# Altium schematic symbol library dongxf_Schlib.SchLib: 300 symbols (part 5 of 6)
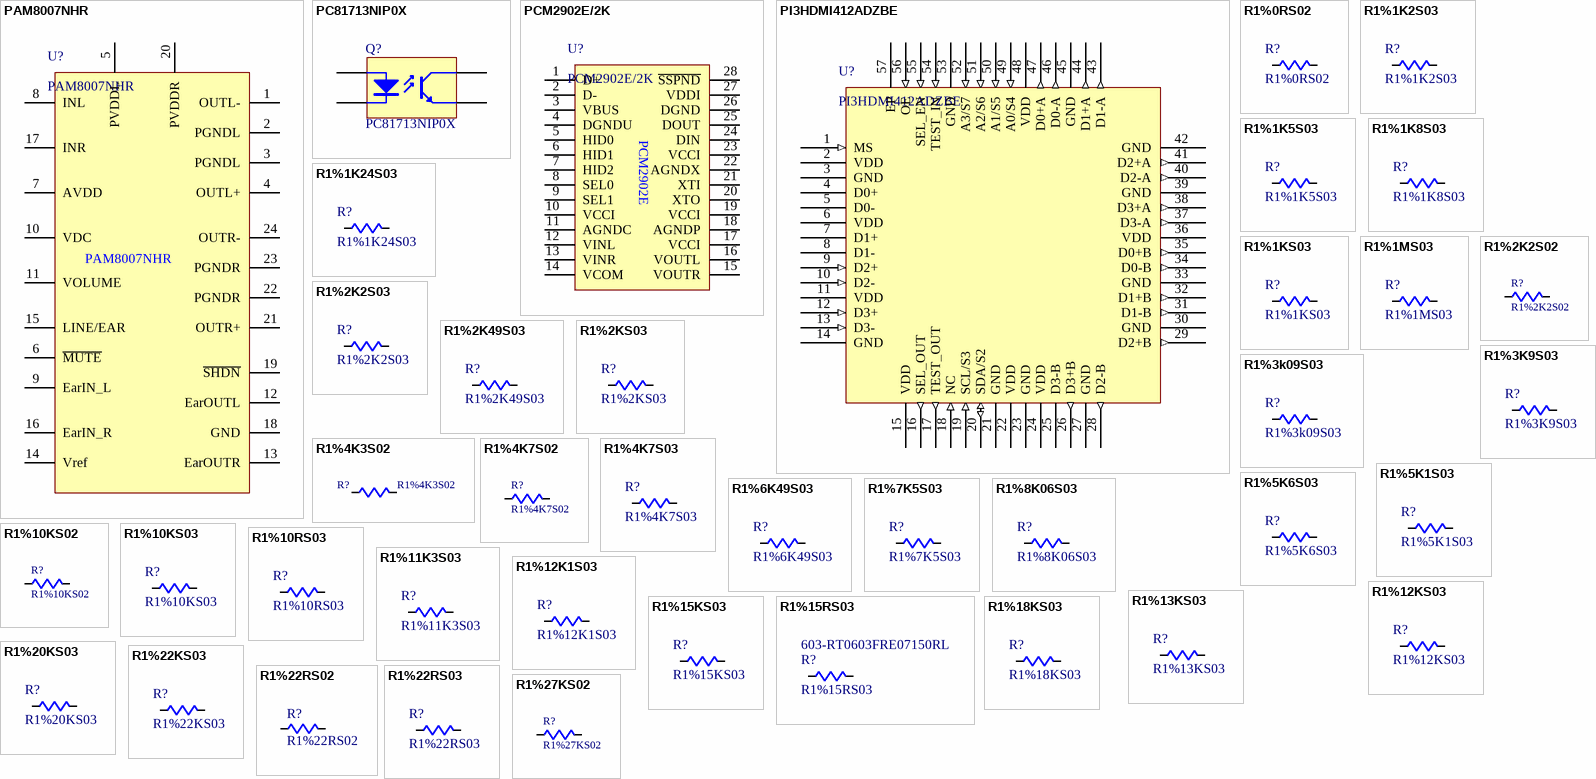
[diagram p18: symbols PAM8007NHR to R1%27KS02]

## R1%22RS03
designator R?
Thin Film Resistors - SMD 1/10W 22 ohm 1% 50ppm; Manufacturer: Yageo; Manufacturer Part Number: RT0603FRE0722RL; Power Rating: 100 mW; Resistance: 22 Ohms; Temperature Coefficient: 50 PPM / C; Voltage Rating: 75 V; Case Height: 0.45 mm; Case Length: 1.6 mm; Case Width: 0.8 mm; Supplier 1: Mouser; RoHS: RoHS Compliant By Exemption; Category: Thin Film Resistors - SMD; Stock 1: 0; Pricing 1: 1=0.135, 50=0.077, 100=0.058, 1000=0.046, 5000=0.038, 10000=0.030, 25000=0.024, 100000=0.019 (AUD); Operating Temperature Range: - 55 C to + 125 C; Package / Case: 0603 (1608 metric); Packaging: Reel; Product: Thin Film Resistors SMD; Series: RT; Tolerance: 1 %; Type: High Precision, High Stability; Brand: Yageo; Case Code - in: 0603; Case Code - mm: 1608; RoHS - Mouser: E; Minimum Order Quantity: 1; Reeling: True; ComponentLink1URL: http://www.yageo.com/documents/recent/PYu-RT_1-to-0.05_RoHS_L_4.pdf; ComponentLink1Description: http://www.yageo.com/documents/recent/PYu-RT_1-to-0.05_RoHS_L_4.pdf; Supplier Part Number 1: 603-RT0603FRE0722RL; My_Descript: R1%22RS03
footprint R0603 (1608 metric)
pins: 1, 2

## R1%27KS02
designator R?
Thick Film Resistors - SMD 27K OHM 5%; Manufacturer: Yageo; Manufacturer Part Number: RC0402JR-0727KL; Voltage Rating: 50 V; Power Rating: 62.5 mW (1/16 W); Resistance: 27 kOhms; Temperature Coefficient: 100 PPM / C; Value: 27K; Supplier 1: Mouser; Supplier Part Number 1: 603-RC0402JR-0727KL; Packaging: Reel; RoHS: RoHS Compliant; Product Category: 0402 SMD Chip Resistors; Termination Style: SMD/SMT; Dimensions: 0.5 mm W x 1 mm L x 0.35 mm H; Product: Thick Film Resistors General Purpose; Case Code - in: 0402; Series: RC; Reeling: True; Case Code - mm: 1005; RoHS - Mouser: Y; Operating Temperature Range: - 55 C to + 155 C; Minimum Order Quantity: 10000; Standard Pack Qty: 10000; Category: Thick Film Resistors - SMD; Tolerance: 5 %; Package / Case: 0402 (1005 metric); My_Descript: R1%27KS02
footprint R0402 (1005 metric)
pins: 1, 2

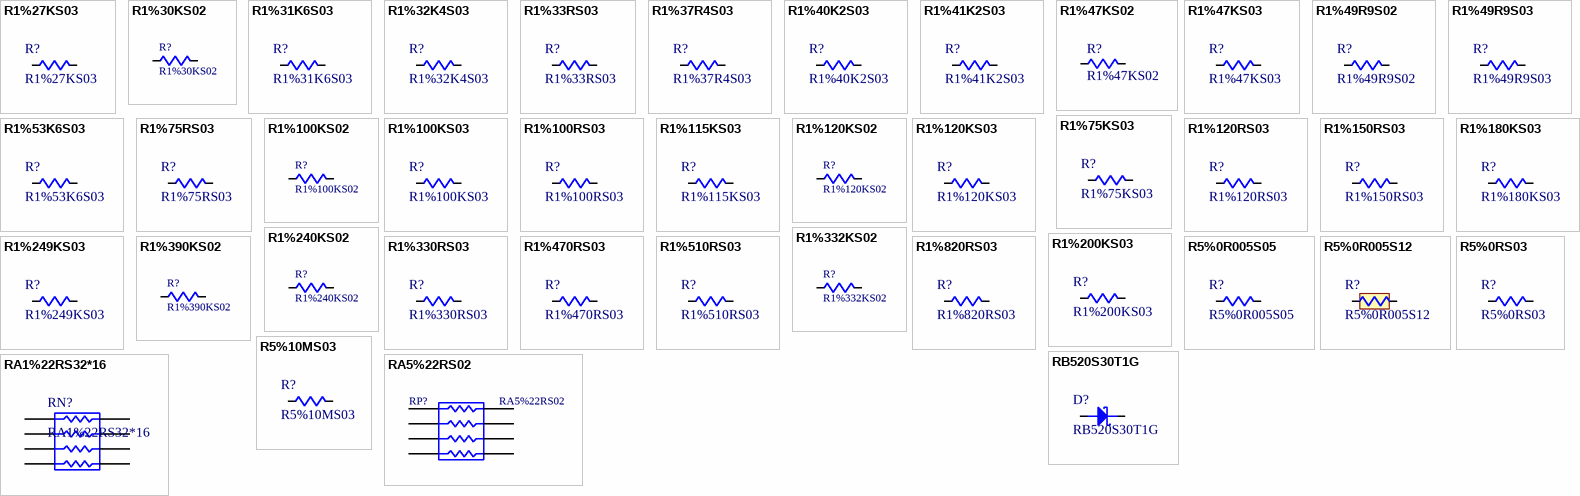
[diagram p9: symbols R1%27KS03 to RB520S30T1G]

## R1%27KS03
designator R?
Thin Film Resistors - SMD 1/10W 27K ohm 1% 50ppm; Manufacturer: Yageo; Manufacturer Part Number: RT0603FRE0727KL; Power Rating: 100 mW; Resistance: 27 kOhms; Temperature Coefficient: 50 PPM / C; Voltage Rating: 75 V; Case Height: 0.45 mm; Case Length: 1.6 mm; Case Width: 0.8 mm; Supplier 1: Mouser; RoHS: RoHS Compliant By Exemption; Category: Thin Film Resistors - SMD; Stock 1: 0; Pricing 1: 1=0.135, 50=0.077, 100=0.058, 1000=0.046, 5000=0.038, 10000=0.030, 25000=0.024, 100000=0.019 (AUD); Operating Temperature Range: - 55 C to + 125 C; Package / Case: 0603 (1608 metric); Packaging: Reel; Product: Thin Film Resistors SMD; Series: RT; Tolerance: 1 %; Type: High Precision, High Stability; Brand: Yageo; Case Code - in: 0603; Case Code - mm: 1608; RoHS - Mouser: E; Minimum Order Quantity: 1; Reeling: True; ComponentLink1URL: http://www.yageo.com/documents/recent/PYu-RT_1-to-0.05_RoHS_L_4.pdf; ComponentLink1Description: http://www.yageo.com/documents/recent/PYu-RT_1-to-0.05_RoHS_L_4.pdf; Supplier Part Number 1: 603-RT0603FRE0727KL; My_Descript: R1%27KS03
footprint R0603 (1608 metric)
pins: 1, 2

## R1%30KS02
designator R?
Thick Film Resistors - SMD 30K OHM 5%; Manufacturer: Yageo; Manufacturer Part Number: RC0402JR-0730KL; Temperature Coefficient: 100 PPM / C; Power Rating: 62.5 mW (1/16 W); Voltage Rating: 50 V; Product Status: New at Mouser; Resistance: 30 kOhms; Tolerance: 5 %; Value: 30K; Supplier 1: Mouser; Supplier Part Number 1: 603-RC0402JR-0730KL; Category: Thick Film Resistors - SMD; Minimum Order Quantity: 10000; Series: RC; Termination Style: SMD/SMT; Product: Thick Film Resistors General Purpose; Case Code - mm: 1005; Dimensions: 0.5 mm W x 1 mm L x 0.35 mm H; Packaging: Reel; Case Code - in: 0402; Operating Temperature Range: - 55 C to + 155 C; RoHS - Mouser: Y; Reeling: True; RoHS: RoHS Compliant; Package / Case: 0402 (1005 metric); My_Descript: R1%30KS02
footprint R0402 (1005 metric)
pins: 1, 2

## R1%31K6S03
designator R?
Manufacturer: Yageo; Manufacturer Part Number: RT0603FRE0731K6L; Power Rating: 100 mW; Resistance: 31.6 kOhms; Temperature Coefficient: 50 PPM / C; Tolerance: 1 %; Voltage Rating: 75 V; Case Height: 0.45 mm; Case Length: 1.6 mm; Case Width: 0.8 mm; Supplier 1: Mouser; RoHS: RoHS Compliant By Exemption; Category: Thin Film Resistors - SMD; Stock 1: 0; Pricing 1: 1=0.135, 50=0.077, 100=0.058, 1000=0.046, 5000=0.038, 10000=0.030, 25000=0.024, 100000=0.019 (AUD); Operating Temperature Range: - 55 C to + 125 C; Package / Case: 0603 (1608 metric); Packaging: Reel; Product: Thin Film Resistors SMD; Series: RT; Type: High Precision, High Stability; Brand: Yageo; Case Code - in: 0603; Case Code - mm: 1608; RoHS - Mouser: E; Minimum Order Quantity: 1; Reeling: True; ComponentLink1URL: http://www.yageo.com/documents/recent/PYu-RT_1-to-0.05_RoHS_L_4.pdf; ComponentLink1Description: http://www.yageo.com/documents/recent/PYu-RT_1-to-0.05_RoHS_L_4.pdf; Supplier Part Number 1: 603-RT0603FRE0731K6L; My_Descript: R1%31K6S03
footprint R0603 (1608 metric)
pins: 1, 2

## R1%32K4S03
designator R?
Manufacturer: Yageo; Manufacturer Part Number: RT0603FRE0732K4L; Power Rating: 100 mW; Resistance: 32.4 kOhms; Temperature Coefficient: 50 PPM / C; Tolerance: 1 %; Voltage Rating: 75 V; Case Height: 0.45 mm; Case Length: 1.6 mm; Case Width: 0.8 mm; My_Descript: R1%32K4S03; Supplier 1: Mouser; RoHS: RoHS Compliant By Exemption; Category: Thin Film Resistors - SMD; Stock 1: 0; Pricing 1: 1=0.135, 50=0.077, 100=0.058, 1000=0.046, 5000=0.038, 10000=0.030, 25000=0.024, 100000=0.019 (AUD); Operating Temperature Range: - 55 C to + 125 C; Package / Case: 0603 (1608 metric); Packaging: Reel; Product: Thin Film Resistors SMD; Series: RT; Type: High Precision, High Stability; Brand: Yageo; Case Code - in: 0603; Case Code - mm: 1608; RoHS - Mouser: E; Minimum Order Quantity: 1; Reeling: True; ComponentLink1URL: http://www.yageo.com/documents/recent/PYu-RT_1-to-0.05_RoHS_L_4.pdf; ComponentLink1Description: http://www.yageo.com/documents/recent/PYu-RT_1-to-0.05_RoHS_L_4.pdf; Supplier Part Number 1: 603-RT0603FRE0732K4L
footprint R0603 (1608 metric)
pins: 1, 2

## R1%33RS03
designator R?
Thin Film Resistors - SMD 1/10W 33 ohm 1% 50ppm; Manufacturer: Yageo; Manufacturer Part Number: RT0603FRE0733RL; Power Rating: 100 mW; Resistance: 33 Ohms; Temperature Coefficient: 50 PPM / C; Voltage Rating: 75 V; Case Height: 0.45 mm; Case Length: 1.6 mm; Case Width: 0.8 mm; Supplier 1: Mouser; RoHS: RoHS Compliant By Exemption; Category: Thin Film Resistors - SMD; Stock 1: 24234; Pricing 1: 1=0.135, 50=0.077, 100=0.058, 1000=0.046, 5000=0.038, 10000=0.030, 25000=0.024, 100000=0.019 (AUD); Operating Temperature Range: - 55 C to + 125 C; Package / Case: 0603 (1608 metric); Packaging: Reel; Product: Thin Film Resistors SMD; Series: RT; Tolerance: 1 %; Type: High Precision, High Stability; Brand: Yageo; Case Code - in: 0603; Case Code - mm: 1608; RoHS - Mouser: E; Minimum Order Quantity: 1; Reeling: True; ComponentLink1URL: http://www.yageo.com/documents/recent/PYu-RT_1-to-0.05_RoHS_L_4.pdf; ComponentLink1Description: http://www.yageo.com/documents/recent/PYu-RT_1-to-0.05_RoHS_L_4.pdf; Supplier Part Number 1: 603-RT0603FRE0733RL; My_Descript: R1%33RS03; Supplier 2: Mouser; Stock 2: 4618; Pricing 2: 1=0.851, 10=0.346, 100=0.193, 1000=0.144, 5000=0.084, 10000=0.077, 25000=0.076, 50000=0.074 (AUD); Standard Pack Qty: 5000; ComponentLink2URL: http://www.mouser.com/ds/2/315/AOA0000CE3-72189.pdf; ComponentLink2Description: http://www.mouser.com/ds/2/315/AOA0000CE3-72189.pdf; Supplier Part Number 2: 667-ERJ-L06KJ50MV
footprint R0603 (1608 metric)
pins: 1, 2

## R1%37R4S03
designator R?
Thin Film Resistors - SMD 1/10W 37.4 ohm 1% 50ppm; Manufacturer: Yageo; Manufacturer Part Number: RT0603FRE0737R4L; Power Rating: 100 mW; Resistance: 37.4 Ohms; Temperature Coefficient: 50 PPM / C; Voltage Rating: 75 V; Case Height: 0.45 mm; Case Length: 1.6 mm; Case Width: 0.8 mm; Supplier 1: Mouser; RoHS: RoHS Compliant By Exemption; Category: Thin Film Resistors - SMD; Stock 1: 0; Pricing 1: 1=0.135, 50=0.077, 100=0.058, 1000=0.046, 5000=0.038, 10000=0.030, 25000=0.024, 100000=0.019 (AUD); Operating Temperature Range: - 55 C to + 125 C; Package / Case: 0603 (1608 metric); Packaging: Reel; Product: Thin Film Resistors SMD; Series: RT; Tolerance: 1 %; Type: High Precision, High Stability; Brand: Yageo; Case Code - in: 0603; Case Code - mm: 1608; RoHS - Mouser: E; Minimum Order Quantity: 1; Reeling: True; ComponentLink1URL: http://www.yageo.com/documents/recent/PYu-RT_1-to-0.05_RoHS_L_4.pdf; ComponentLink1Description: http://www.yageo.com/documents/recent/PYu-RT_1-to-0.05_RoHS_L_4.pdf; Supplier Part Number 1: 603-RT0603FRE0737R4L; My_Descript: R1%37R4S03
footprint R0603 (1608 metric)
pins: 1, 2

## R1%40K2S03
designator R?
Manufacturer: Yageo; Manufacturer Part Number: RT0603FRE0740K2L; Power Rating: 100 mW; Resistance: 40.2 kOhms; Temperature Coefficient: 50 PPM / C; Tolerance: 1 %; Voltage Rating: 75 V; Case Height: 0.45 mm; Case Length: 1.6 mm; Case Width: 0.8 mm; Supplier 1: Mouser; RoHS: RoHS Compliant By Exemption; Category: Thin Film Resistors - SMD; Stock 1: 0; Pricing 1: 1=0.135, 50=0.077, 100=0.058, 1000=0.046, 5000=0.038, 10000=0.030, 25000=0.024, 100000=0.019 (AUD); Operating Temperature Range: - 55 C to + 125 C; Package / Case: 0603 (1608 metric); Packaging: Reel; Product: Thin Film Resistors SMD; Series: RT; Type: High Precision, High Stability; Brand: Yageo; Case Code - in: 0603; Case Code - mm: 1608; RoHS - Mouser: E; Minimum Order Quantity: 1; Reeling: True; ComponentLink1URL: http://www.yageo.com/documents/recent/PYu-RT_1-to-0.05_RoHS_L_4.pdf; ComponentLink1Description: http://www.yageo.com/documents/recent/PYu-RT_1-to-0.05_RoHS_L_4.pdf; Supplier Part Number 1: 603-RT0603FRE0740K2L; My_Descript: R1%40K2S03
footprint R0603 (1608 metric)
pins: 1, 2

## R1%41K2S03
designator R?
Manufacturer: Yageo; Manufacturer Part Number: RT0603FRE0741K2L; Power Rating: 100 mW; Resistance: 41.2 kOhms; Temperature Coefficient: 50 PPM / C; Tolerance: 1 %; Voltage Rating: 75 V; Case Height: 0.45 mm; Case Length: 1.6 mm; Case Width: 0.8 mm; My_Descript: R1%41K2S03; Supplier 1: Mouser; RoHS: RoHS Compliant By Exemption; Category: Thin Film Resistors - SMD; Stock 1: 0; Pricing 1: 1=0.135, 50=0.077, 100=0.058, 1000=0.046, 5000=0.038, 10000=0.030, 25000=0.024, 100000=0.019 (AUD); Operating Temperature Range: - 55 C to + 125 C; Package / Case: 0603 (1608 metric); Packaging: Reel; Product: Thin Film Resistors SMD; Series: RT; Type: High Precision, High Stability; Brand: Yageo; Case Code - in: 0603; Case Code - mm: 1608; RoHS - Mouser: E; Minimum Order Quantity: 1; Reeling: True; ComponentLink1URL: http://www.yageo.com/documents/recent/PYu-RT_1-to-0.05_RoHS_L_4.pdf; ComponentLink1Description: http://www.yageo.com/documents/recent/PYu-RT_1-to-0.05_RoHS_L_4.pdf; Supplier Part Number 1: 603-RT0603FRE0741K2L
footprint R0603 (1608 metric)
pins: 1, 2

## R1%47KS02
designator R?
Thick Film Resistors - SMD 47K OHM 5%; Manufacturer: Yageo; Manufacturer Part Number: RC0402JR-0747KL; Voltage Rating: 50 V; Temperature Coefficient: 100 PPM / C; Power Rating: 62.5 mW (1/16 W); Resistance: 47 kOhms; Value: 47K; Supplier 1: Mouser; Category: Thick Film Resistors - SMD; Standard Pack Qty: 10000; Case Code - mm: 1005; Termination Style: SMD/SMT; Product Category: 0402 SMD Chip Resistors; Operating Temperature Range: - 55 C to + 155 C; RoHS: RoHS Compliant; Tolerance: 5 %; Dimensions: 0.5 mm W x 1 mm L x 0.35 mm H; Product: Thick Film Resistors General Purpose; Package / Case: 0402 (1005 metric); Series: RC; Case Code - in: 0402; Packaging: Reel; Minimum Order Quantity: 10000; RoHS - Mouser: Y; Reeling: True; Supplier Part Number 1: 603-RC0402JR-0747KL; My_Descript: R1%47KS02
footprint R0402 (1005 metric)
pins: 1, 2

## R1%47KS03
designator R?
Thin Film Resistors - SMD 1/10W 47K ohm 1% 50ppm; Manufacturer: Yageo; Manufacturer Part Number: RT0603FRE0747KL; Power Rating: 100 mW; Resistance: 47 kOhms; Temperature Coefficient: 50 PPM / C; Voltage Rating: 75 V; Case Height: 0.45 mm; Case Length: 1.6 mm; Case Width: 0.8 mm; Product Status: New at Mouser; Supplier 1: Mouser; RoHS: RoHS Compliant By Exemption; Category: Thin Film Resistors - SMD; Stock 1: 19536; Pricing 1: 1=0.135, 50=0.077, 100=0.058, 1000=0.046, 5000=0.038, 10000=0.027, 25000=0.022, 50000=0.019, 100000=0.016 (AUD); Operating Temperature Range: - 55 C to + 125 C; Package / Case: 0603 (1608 metric); Packaging: Reel; Product: Thin Film Resistors SMD; Series: RT; Tolerance: 1 %; Type: High Precision, High Stability; Brand: Yageo; Case Code - in: 0603; Case Code - mm: 1608; RoHS - Mouser: E; Minimum Order Quantity: 1; Reeling: True; ComponentLink1URL: http://www.yageo.com/documents/recent/PYu-RT_1-to-0.05_RoHS_L_4.pdf; ComponentLink1Description: http://www.yageo.com/documents/recent/PYu-RT_1-to-0.05_RoHS_L_4.pdf; Supplier Part Number 1: 603-RT0603FRE0747KL; My_Descript: R1%47KS03
footprint R0603 (1608 metric)
pins: 1, 2

## R1%49R9S02
designator R?
Manufacturer: Yageo; Manufacturer Part Number: RT0402FRE0749R9L; Power Rating: 62.5 mW (1/16 W); Resistance: 49.9 Ohms; Temperature Coefficient: 50 PPM / C; Tolerance: 1 %; Voltage Rating: 50 V; Case Height: 0.3 mm; Case Length: 1 mm; Case Width: 0.5 mm; Supplier 1: Mouser; RoHS: RoHS Compliant By Exemption; Category: Thin Film Resistors - SMD; Stock 1: 32852; Pricing 1: 1=0.135, 50=0.107, 100=0.095, 1000=0.084, 5000=0.070, 10000=0.058, 20000=0.039, 50000=0.024, 100000=0.019 (AUD); Operating Temperature Range: - 55 C to + 125 C; Package / Case: 0402 (1005 metric); Packaging: Reel; Product: Thin Film Resistors SMD; Series: RT; Type: High Precision, High Stability; Brand: Yageo; Case Code - in: 0402; Case Code - mm: 1005; RoHS - Mouser: E; Minimum Order Quantity: 1; Reeling: True; ComponentLink1URL: http://www.yageo.com/documents/recent/PYu-RT_1-to-0.05_RoHS_L_4.pdf; ComponentLink1Description: http://www.yageo.com/documents/recent/PYu-RT_1-to-0.05_RoHS_L_4.pdf; Supplier Part Number 1: 603-RT0402FRE0749R9L; My_Descript: R1%49R9S02
footprint R0402 (1005 metric)
pins: 1, 2

## R1%49R9S03
designator R?
Manufacturer: Yageo; Manufacturer Part Number: RT0603FRE0749R9L; Power Rating: 100 mW; Resistance: 49.9 Ohms; Temperature Coefficient: 50 PPM / C; Tolerance: 1 %; Voltage Rating: 75 V; Case Height: 0.45 mm; Case Length: 1.6 mm; Case Width: 0.8 mm; Supplier 1: Mouser; RoHS: RoHS Compliant By Exemption; Category: Thin Film Resistors - SMD; Stock 1: 16276; Pricing 1: 1=0.135, 50=0.077, 100=0.058, 1000=0.046, 5000=0.038, 10000=0.030, 25000=0.024, 100000=0.019 (AUD); Operating Temperature Range: - 55 C to + 125 C; Package / Case: 0603 (1608 metric); Packaging: Reel; Product: Thin Film Resistors SMD; Series: RT; Type: High Precision, High Stability; Brand: Yageo; Case Code - in: 0603; Case Code - mm: 1608; RoHS - Mouser: E; Minimum Order Quantity: 1; Reeling: True; ComponentLink1URL: http://www.yageo.com/documents/recent/PYu-RT_1-to-0.05_RoHS_L_4.pdf; ComponentLink1Description: http://www.yageo.com/documents/recent/PYu-RT_1-to-0.05_RoHS_L_4.pdf; Supplier Part Number 1: 603-RT0603FRE0749R9L; My_Descript: R1%49R9S03
footprint R0603 (1608 metric)
pins: 1, 2

## R1%53K6S03
designator R?
Thin Film Resistors - SMD 1/10W 8.06K ohm 1% 50ppm; Manufacturer: Yageo; Manufacturer Part Number: RC0603FR-0753K6L; Power Rating: 100 mW; Resistance: 53.6 kOhms; Temperature Coefficient: 100 PPM / C; Voltage Rating: 50 V; Case Height: 0.45 mm; Case Length: 1.6 mm; Case Width: 0.8 mm; My_Descript: R1%53K6S03; Supplier 1: Mouser; RoHS: RoHS Compliant; Category: Thick Film Resistors - SMD; Stock 1: 75000; Pricing 1: 5000=0.003 (AUD); Operating Temperature Range: - 55 C to + 155 C; Package / Case: 0603 (1608 metric); Packaging: Reel; Product: Thick Film Resistors General Purpose; Series: RC; Tolerance: 1 %; Type: General Purpose Chip Resistor Surface Mount; Brand: Yageo; Case Code - in: 0603; Case Code - mm: 1608; Product Category: 0603 SMD Chip Resistors; Standard Pack Qty: 5000; RoHS - Mouser: Y; Minimum Order Quantity: 5000; Reeling: True; ComponentLink1URL: http://www.mouser.com/catalog/specsheets/RC0603.pdf; ComponentLink1Description: http://www.mouser.com/catalog/specsheets/RC0603.pdf; Supplier Part Number 1: 603-RC0603FR-0753K6L
footprint R0603 (1608 metric)
pins: 1, 2

## R1%75KS03
designator R?
Thin Film Resistors - SMD 1/10W 75K ohm 1% 50ppm; Manufacturer: Yageo; Manufacturer Part Number: RT0603FRE0775KL; Power Rating: 100 mW; Resistance: 75 kOhms; Temperature Coefficient: 50 PPM / C; Voltage Rating: 75 V; Case Height: 0.45 mm; Case Length: 1.6 mm; Case Width: 0.8 mm; Product Status: New at Mouser; Supplier 1: Mouser; RoHS: RoHS Compliant By Exemption; Category: Thin Film Resistors - SMD; Stock 1: 15664; Pricing 1: 1=0.135, 50=0.077, 100=0.058, 1000=0.046, 5000=0.038, 10000=0.027, 25000=0.022, 50000=0.019, 100000=0.016 (AUD); Operating Temperature Range: - 55 C to + 125 C; Package / Case: 0603 (1608 metric); Packaging: Reel; Product: Thin Film Resistors SMD; Series: RT; Tolerance: 1 %; Type: High Precision, High Stability; Brand: Yageo; Case Code - in: 0603; Case Code - mm: 1608; RoHS - Mouser: E; Minimum Order Quantity: 1; Reeling: True; ComponentLink1URL: http://www.yageo.com/documents/recent/PYu-RT_1-to-0.05_RoHS_L_4.pdf; ComponentLink1Description: http://www.yageo.com/documents/recent/PYu-RT_1-to-0.05_RoHS_L_4.pdf; Supplier Part Number 1: 603-RT0603FRE0775KL; My_Descript: R1%75KS03
footprint R0603 (1608 metric)
pins: 1, 2

## R1%75RS03
designator R?
Thin Film Resistors - SMD 1/10W 75 ohm 1% 50ppm; Manufacturer: Yageo; Manufacturer Part Number: RT0603FRE0775RL; Power Rating: 100 mW; Resistance: 75 Ohms; Temperature Coefficient: 50 PPM / C; Voltage Rating: 75 V; Case Height: 0.45 mm; Case Length: 1.6 mm; Case Width: 0.8 mm; Supplier 1: Mouser; RoHS: RoHS Compliant By Exemption; Category: Thin Film Resistors - SMD; Stock 1: 11247; Pricing 1: 1=0.135, 50=0.077, 100=0.058, 1000=0.046, 5000=0.038, 10000=0.030, 25000=0.024, 100000=0.019 (AUD); Operating Temperature Range: - 55 C to + 125 C; Package / Case: 0603 (1608 metric); Packaging: Reel; Product: Thin Film Resistors SMD; Series: RT; Tolerance: 1 %; Type: High Precision, High Stability; Brand: Yageo; Case Code - in: 0603; Case Code - mm: 1608; RoHS - Mouser: E; Minimum Order Quantity: 1; Reeling: True; ComponentLink1URL: http://www.yageo.com/documents/recent/PYu-RT_1-to-0.05_RoHS_L_4.pdf; ComponentLink1Description: http://www.yageo.com/documents/recent/PYu-RT_1-to-0.05_RoHS_L_4.pdf; Supplier Part Number 1: 603-RT0603FRE0775RL; My_Descript: R1%75RS03
footprint R0603 (1608 metric)
pins: 1, 2

## R1%100KS02
designator R?
Thick Film Resistors - SMD 100K OHM 5%; Manufacturer: Yageo; Manufacturer Part Number: RC0402JR-07100KL; Power Rating: 62.5 mW (1/16 W); Temperature Coefficient: 100 PPM / C; Resistance: 100 kOhms; Voltage Rating: 50 V; Value: 100K; Supplier 1: Mouser; Supplier Part Number 1: 603-RC0402JR-07100KL; RoHS: RoHS Compliant; Minimum Order Quantity: 10000; Case Code - mm: 1005; Case Code - in: 0402; RoHS - Mouser: Y; Product: Thick Film Resistors General Purpose; Dimensions: 0.5 mm W x 1 mm L x 0.35 mm H; Packaging: Reel; Product Category: 0402 SMD Chip Resistors; Standard Pack Qty: 10000; Category: Thick Film Resistors - SMD; Reeling: True; Operating Temperature Range: - 55 C to + 155 C; Package / Case: 0402 (1005 metric); Tolerance: 5 %; Termination Style: SMD/SMT; Series: RC; My_Descript: R1%100KS02
footprint R0402 (1005 metric)
pins: 1, 2

## R1%100KS03
designator R?
Thin Film Resistors - SMD 1/10W 100K ohm 1% 50ppm; Manufacturer: Yageo; Manufacturer Part Number: RT0603FRE13100KL; Power Rating: 100 mW; Resistance: 100 kOhms; Temperature Coefficient: 50 PPM / C; Voltage Rating: 75 V; Case Height: 0.45 mm; Case Length: 1.6 mm; Case Width: 0.8 mm; Product Status: New at Mouser; Supplier 1: Mouser; RoHS: RoHS Compliant By Exemption; Category: Thin Film Resistors - SMD; Stock 1: 17751; Pricing 1: 1=0.135, 50=0.077, 100=0.058, 1000=0.046, 5000=0.038, 10000=0.030, 20000=0.024, 100000=0.019 (AUD); Operating Temperature Range: - 55 C to + 125 C; Package / Case: 0603 (1608 metric); Packaging: Reel; Product: Thin Film Resistors SMD; Series: RT; Tolerance: 1 %; Type: High Precision, High Stability; Brand: Yageo; Case Code - in: 0603; Case Code - mm: 1608; RoHS - Mouser: E; Minimum Order Quantity: 1; Reeling: True; ComponentLink1URL: http://www.yageo.com/documents/recent/PYu-RT_1-to-0.05_RoHS_L_4.pdf; ComponentLink1Description: http://www.yageo.com/documents/recent/PYu-RT_1-to-0.05_RoHS_L_4.pdf; My_Descript: R1%100KS03; Supplier Part Number 1: 603-RT0603FRE13100KL
footprint R0603 (1608 metric)
pins: 1, 2

## R1%100RS03
designator R?
Thin Film Resistors - SMD 1/10W 100 ohm 1% 50ppm; Manufacturer: Yageo; Manufacturer Part Number: RT0603FRE07100RL; Power Rating: 100 mW; Resistance: 100 Ohms; Temperature Coefficient: 50 PPM / C; Voltage Rating: 75 V; Case Height: 0.45 mm; Case Length: 1.6 mm; Case Width: 0.8 mm; Product Status: New at Mouser; Supplier 1: Mouser; RoHS: RoHS Compliant By Exemption; Category: Thin Film Resistors - SMD; Stock 1: 28415; Pricing 1: 1=0.135, 50=0.077, 100=0.058, 1000=0.046, 5000=0.038, 10000=0.030, 25000=0.024, 100000=0.019 (AUD); Operating Temperature Range: - 55 C to + 125 C; Package / Case: 0603 (1608 metric); Packaging: Reel; Product: Thin Film Resistors SMD; Series: RT; Tolerance: 1 %; Type: High Precision, High Stability; Brand: Yageo; Case Code - in: 0603; Case Code - mm: 1608; RoHS - Mouser: E; Minimum Order Quantity: 1; Reeling: True; ComponentLink1URL: http://www.yageo.com/documents/recent/PYu-RT_1-to-0.05_RoHS_L_4.pdf; ComponentLink1Description: http://www.yageo.com/documents/recent/PYu-RT_1-to-0.05_RoHS_L_4.pdf; Supplier Part Number 1: 603-RT0603FRE07100RL; My_Descript: R1%100RS03
footprint R0603 (1608 metric)
pins: 1, 2

## R1%115KS03
designator R?
Thin Film Resistors - SMD 1/10W 115K ohm 1% 50ppm; Manufacturer: Yageo; Manufacturer Part Number: RT0603FRE07115KL; Power Rating: 100 mW; Resistance: 115 kOhms; Temperature Coefficient: 50 PPM / C; Voltage Rating: 75 V; Case Height: 0.45 mm; Case Length: 1.6 mm; Case Width: 0.8 mm; Supplier 1: Mouser; RoHS: RoHS Compliant By Exemption; Category: Thin Film Resistors - SMD; Stock 1: 0; Pricing 1: 1=0.135, 50=0.077, 100=0.058, 1000=0.046, 5000=0.038, 10000=0.030, 25000=0.024, 100000=0.019 (AUD); Operating Temperature Range: - 55 C to + 125 C; Package / Case: 0603 (1608 metric); Packaging: Reel; Product: Thin Film Resistors SMD; Series: RT; Tolerance: 1 %; Type: High Precision, High Stability; Brand: Yageo; Case Code - in: 0603; Case Code - mm: 1608; RoHS - Mouser: E; Minimum Order Quantity: 1; Reeling: True; ComponentLink1URL: http://www.yageo.com/documents/recent/PYu-RT_1-to-0.05_RoHS_L_4.pdf; ComponentLink1Description: http://www.yageo.com/documents/recent/PYu-RT_1-to-0.05_RoHS_L_4.pdf; Supplier Part Number 1: 603-RT0603FRE07115KL; My_Descript: R1%115KS03
footprint R0603 (1608 metric)
pins: 1, 2

## R1%120KS02
designator R?
Thick Film Resistors - SMD 120K OHM 1%; Manufacturer: Yageo; Manufacturer Part Number: RC0402FR-07120KL; Power Rating: 62.5 mW (1/16 W); Resistance: 120 kOhms; Temperature Coefficient: 100 PPM / C; Voltage Rating: 50 V; Product Status: New at Mouser; Tolerance: 1 %; Supplier 1: Mouser; Supplier Part Number 1: 603-RC0402FR-07120KL; RoHS: RoHS Compliant; Category: Thick Film Resistors - SMD; Operating Temperature Range: - 55 C to + 155 C; Package / Case: 0402 (1005 metric); Packaging: Reel; Product: Thick Film Resistors General Purpose; Case Code - in: 0402; Case Code - mm: 1005; RoHS - Mouser: Y; Minimum Order Quantity: 10000; Reeling: True; Value: 120K; Stock: 10000; Dimensions: 0.5 mm W x 1 mm L x 0.35 mm H; Series: RC; Termination Style: SMD/SMT; ComponentLink1URL: http://www.mouser.com/ds/2/447/PYu-RC0402_51_RoHS_L_6_r-8721.pdf; ComponentLink1Description: http://www.mouser.com/ds/2/447/PYu-RC0402_51_RoHS_L_6_r-8721.pdf; My_Descript: R1%120KS02
footprint R0402 (1005 metric)
pins: 1, 2

## R1%120KS03
designator R?
Manufacturer: Yageo; Manufacturer Part Number: RT0603FRE07120KL; Power Rating: 100 mW; Resistance: 120 kOhms; Temperature Coefficient: 50 PPM / C; Tolerance: 1 %; Voltage Rating: 75 V; Case Height: 0.45 mm; Case Length: 1.6 mm; Case Width: 0.8 mm; Supplier 1: Mouser; RoHS: RoHS Compliant By Exemption; Category: Thin Film Resistors - SMD; Stock 1: 107137; Pricing 1: 1=0.135, 50=0.077, 100=0.058, 1000=0.046, 5000=0.038, 10000=0.030, 25000=0.024, 100000=0.019 (AUD); Operating Temperature Range: - 55 C to + 125 C; Package / Case: 0603 (1608 metric); Packaging: Reel; Product: Thin Film Resistors SMD; Series: RT; Type: High Precision, High Stability; Brand: Yageo; Case Code - in: 0603; Case Code - mm: 1608; RoHS - Mouser: E; Minimum Order Quantity: 1; Reeling: True; ComponentLink1URL: http://www.yageo.com/documents/recent/PYu-RT_1-to-0.05_RoHS_L_4.pdf; ComponentLink1Description: http://www.yageo.com/documents/recent/PYu-RT_1-to-0.05_RoHS_L_4.pdf; Supplier Part Number 1: 603-RT0603FRE07120KL; My_Descript: R1%120KS03
footprint R0603 (1608 metric)
pins: 1, 2

## R1%120RS03
designator R?
Thin Film Resistors - SMD 1/10W 120 ohm 1% 50ppm; Manufacturer: Yageo; Manufacturer Part Number: RT0603FRE07120RL; Power Rating: 100 mW; Resistance: 120 Ohms; Temperature Coefficient: 50 PPM / C; Voltage Rating: 75 V; Case Height: 0.45 mm; Case Length: 1.6 mm; Case Width: 0.8 mm; Supplier 1: Mouser; RoHS: RoHS Compliant By Exemption; Category: Thin Film Resistors - SMD; Stock 1: 0; Pricing 1: 1=0.135, 50=0.077, 100=0.058, 1000=0.046, 5000=0.038, 10000=0.030, 25000=0.024, 100000=0.019 (AUD); Operating Temperature Range: - 55 C to + 125 C; Package / Case: 0603 (1608 metric); Packaging: Reel; Product: Thin Film Resistors SMD; Series: RT; Tolerance: 1 %; Type: High Precision, High Stability; Brand: Yageo; Case Code - in: 0603; Case Code - mm: 1608; RoHS - Mouser: E; Minimum Order Quantity: 1; Reeling: True; ComponentLink1URL: http://www.yageo.com/documents/recent/PYu-RT_1-to-0.05_RoHS_L_4.pdf; ComponentLink1Description: http://www.yageo.com/documents/recent/PYu-RT_1-to-0.05_RoHS_L_4.pdf; Supplier Part Number 1: 603-RT0603FRE07120RL; My_Descript: R1%120RS03
footprint R0603 (1608 metric)
pins: 1, 2

## R1%150RS03
designator R?
Thin Film Resistors - SMD 1/10W 150 ohm 1% 50ppm; Manufacturer: Yageo; Manufacturer Part Number: RT0603FRE07150RL; Power Rating: 100 mW; Resistance: 150 Ohms; Temperature Coefficient: 50 PPM / C; Voltage Rating: 75 V; Case Height: 0.45 mm; Case Length: 1.6 mm; Case Width: 0.8 mm; Supplier 1: Mouser; RoHS: RoHS Compliant By Exemption; Category: Thin Film Resistors - SMD; Stock 1: 4541; Pricing 1: 1=0.135, 50=0.077, 100=0.058, 1000=0.046, 5000=0.038, 10000=0.030, 25000=0.024, 100000=0.019 (AUD); Operating Temperature Range: - 55 C to + 125 C; Package / Case: 0603 (1608 metric); Packaging: Reel; Product: Thin Film Resistors SMD; Series: RT; Tolerance: 1 %; Type: High Precision, High Stability; Brand: Yageo; Case Code - in: 0603; Case Code - mm: 1608; RoHS - Mouser: E; Minimum Order Quantity: 1; Reeling: True; ComponentLink1URL: http://www.yageo.com/documents/recent/PYu-RT_1-to-0.05_RoHS_L_4.pdf; ComponentLink1Description: http://www.yageo.com/documents/recent/PYu-RT_1-to-0.05_RoHS_L_4.pdf; Supplier Part Number 1: 603-RT0603FRE07150RL; My_Descript: R1%150RS03
footprint R0603 (1608 metric)
pins: 1, 2

## R1%180KS03
designator R?
Thin Film Resistors - SMD 1/10W 180K ohm 1% 50ppm; Manufacturer: Yageo; Manufacturer Part Number: RT0603FRE07180KL; Power Rating: 100 mW; Resistance: 180 kOhms; Temperature Coefficient: 50 PPM / C; Voltage Rating: 75 V; Case Height: 0.45 mm; Case Length: 1.6 mm; Case Width: 0.8 mm; Supplier 1: Mouser; RoHS: RoHS Compliant By Exemption; Category: Thin Film Resistors - SMD; Stock 1: 0; Pricing 1: 1=0.135, 50=0.077, 100=0.058, 1000=0.046, 5000=0.038, 10000=0.030, 25000=0.024, 100000=0.019 (AUD); Operating Temperature Range: - 55 C to + 125 C; Package / Case: 0603 (1608 metric); Packaging: Reel; Product: Thin Film Resistors SMD; Series: RT; Tolerance: 1 %; Type: High Precision, High Stability; Brand: Yageo; Case Code - in: 0603; Case Code - mm: 1608; RoHS - Mouser: E; Minimum Order Quantity: 1; Reeling: True; ComponentLink1URL: http://www.yageo.com/documents/recent/PYu-RT_1-to-0.05_RoHS_L_4.pdf; ComponentLink1Description: http://www.yageo.com/documents/recent/PYu-RT_1-to-0.05_RoHS_L_4.pdf; Supplier Part Number 1: 603-RT0603FRE07180KL; My_Descript: R1%180KS03
footprint R0603 (1608 metric)
pins: 1, 2

## R1%200KS03
designator R?
Thin Film Resistors - SMD 1/10W 200K ohm 1% 50ppm; Manufacturer: Yageo; Manufacturer Part Number: RT0603FRE07200KL; Power Rating: 100 mW; Resistance: 200 kOhms; Temperature Coefficient: 50 PPM / C; Voltage Rating: 75 V; Case Height: 0.45 mm; Case Length: 1.6 mm; Case Width: 0.8 mm; Supplier 1: Mouser; RoHS: RoHS Compliant By Exemption; Category: Thin Film Resistors - SMD; Stock 1: 15861; Pricing 1: 1=0.135, 50=0.077, 100=0.058, 1000=0.046, 5000=0.038, 10000=0.030, 25000=0.024, 100000=0.019 (AUD); Operating Temperature Range: - 55 C to + 125 C; Package / Case: 0603 (1608 metric); Packaging: Reel; Product: Thin Film Resistors SMD; Series: RT; Tolerance: 1 %; Type: High Precision, High Stability; Brand: Yageo; Case Code - in: 0603; Case Code - mm: 1608; RoHS - Mouser: E; Minimum Order Quantity: 1; Reeling: True; ComponentLink1URL: http://www.yageo.com/documents/recent/PYu-RT_1-to-0.05_RoHS_L_4.pdf; ComponentLink1Description: http://www.yageo.com/documents/recent/PYu-RT_1-to-0.05_RoHS_L_4.pdf; Supplier Part Number 1: 603-RT0603FRE07200KL; My_Descript: R1%200KS03
footprint R0603 (1608 metric)
pins: 1, 2

## R1%240KS02
designator R?
Thick Film Resistors - SMD 240K OHM 1%; Manufacturer: Yageo; Manufacturer Part Number: RC0402FR-07240KL; Power Rating: 62.5 mW (1/16 W); Resistance: 240 kOhms; Temperature Coefficient: 100 PPM / C; Voltage Rating: 50 V; Product Status: New at Mouser; Tolerance: 1 %; Value: 240K; Supplier 1: Mouser; Supplier Part Number 1: 603-RC0402FR-07240KL; RoHS: RoHS Compliant; Category: Thick Film Resistors - SMD; Stock 1: 60000; Pricing 1: 10000=0.003, 20000=0.002 (USD); Dimensions: 0.5 mm W x 1 mm L x 0.35 mm H; Operating Temperature Range: - 55 C to + 155 C; Package / Case: 0402 (1005 metric); Packaging: Reel; Product: Thick Film Resistors General Purpose; Series: RC; Termination Style: SMD/SMT; Case Code - in: 0402; Case Code - mm: 1005; RoHS - Mouser: Y; Minimum Order Quantity: 10000; Reeling: True; ComponentLink1URL: http://www.mouser.com/ds/2/447/PYu-RC0402_51_RoHS_L_6_r-8721.pdf; ComponentLink1Description: http://www.mouser.com/ds/2/447/PYu-RC0402_51_RoHS_L_6_r-8721.pdf; My_Descript: R1%240KS02
footprint R0402 (1005 metric)
pins: 1, 2

## R1%249KS03
designator R?
Thick Film Resistors - SMD 1/10W 2.49K ohm 1%; Manufacturer: Yageo; Manufacturer Part Number: RT0603FRE07249KL; Power Rating: 100 mW; Resistance: 249 kOhms; Temperature Coefficient: 50 PPM / C; Voltage Rating: 75 V; Case Height: 0.45 mm; Case Length: 1.6 mm; Case Width: 0.8 mm; My_Descript: R1%249KS03; Supplier 1: Mouser; RoHS: RoHS Compliant By Exemption; Category: Thin Film Resistors - SMD; Stock 1: 0; Pricing 1: 1=0.135, 50=0.077, 100=0.058, 1000=0.046, 5000=0.038, 10000=0.030, 25000=0.024, 100000=0.019 (AUD); Operating Temperature Range: - 55 C to + 125 C; Package / Case: 0603 (1608 metric); Packaging: Reel; Product: Thin Film Resistors SMD; Series: RT; Tolerance: 1 %; Type: High Precision, High Stability; Brand: Yageo; Case Code - in: 0603; Case Code - mm: 1608; RoHS - Mouser: E; Minimum Order Quantity: 1; Reeling: True; ComponentLink1URL: http://www.yageo.com/documents/recent/PYu-RT_1-to-0.05_RoHS_L_4.pdf; ComponentLink1Description: http://www.yageo.com/documents/recent/PYu-RT_1-to-0.05_RoHS_L_4.pdf; Supplier Part Number 1: 603-RT0603FRE07249KL
footprint R0603 (1608 metric)
pins: 1, 2

## R1%330RS03
designator R?
Thick Film Resistors - SMD 330ohm 1% 1/10W; Manufacturer: Yageo; Manufacturer Part Number: AF0603FR-07330RL; Power Rating: 100 mW; Resistance: 330 Ohms; Temperature Coefficient: 100 PPM / C; Voltage Rating: 50 V; Case Height: 0.45 mm; Case Length: 1.6 mm; Case Width: 0.8 mm; Frequency: 27 MHz; Frequency Stability: 50 PPM; Load Capacitance: 13 pF; Supplier 1: Mouser; RoHS: RoHS Compliant By Exemption; Category: Thick Film Resistors - SMD; Stock 1: 10364; Pricing 1: 1=0.027, 5000=0.014, 15000=0.011, 100000=0.009 (AUD); Operating Temperature Range: - 55 C to + 155 C; Package / Case: 0603 (1608 metric); Packaging: Reel; Product: Thick Film Resistors General Purpose; Series: AF series; Tolerance: 1 %; Type: Anti-Sulfurated Chip Resistors; Brand: Yageo; Case Code - in: 0603; Case Code - mm: 1608; RoHS - Mouser: E; Minimum Order Quantity: 1; Reeling: True; ComponentLink1URL: http://www.mouser.com/ds/2/447/PYu-AF_51_RoHS_L_0-13854.pdf; ComponentLink1Description: http://www.mouser.com/ds/2/447/PYu-AF_51_RoHS_L_0-13854.pdf; Supplier Part Number 1: 603-AF0603FR-07330RL; My_Descript: R1%330RS03; Supplier 2: Mouser; Stock 2: 890; Pricing 2: 1=1.84, 10=1.71, 100=1.47, 500=1.43, 1000=1.15, 2000=1.09, 4000=1.05, 8000=1.01 (AUD); Dimensions: 3.5 mm W x 6 mm L x 1.2 mm H; Termination Style: SMD/SMT; Mounting Style: SMD/SMT; Product Category: Crystals, SMD; Standard Pack Qty: 1000; ComponentLink2URL: http://www.mouser.com/ds/2/96/008-0260-0-318470.pdf; ComponentLink2Description: http://www.mouser.com/ds/2/96/008-0260-0-318470.pdf; Supplier Part Number 2: 774-406C35B27M0
footprint R0603 (1608 metric)
pins: 1, 2

## R1%332KS02
designator R?
Thick Film Resistors - SMD 332K OHM 1%; Manufacturer: Yageo; Manufacturer Part Number: RC0402FR-07332KL; Resistance: 332 kOhms; Power Rating: 62.5 mW (1/16 W); Voltage Rating: 50 V; Temperature Coefficient: 100 PPM / C; Tolerance: 1 %; Value: 332K; Supplier 1: Mouser; Supplier Part Number 1: 603-RC0402FR-07332KL; Operating Temperature Range: - 55 C to + 155 C; RoHS: RoHS Compliant By Exemption; Termination Style: SMD/SMT; Series: RC; Dimensions: 0.5 mm W x 1 mm L x 0.35 mm H; Packaging: Reel; Category: Thick Film Resistors - SMD; Case Code - in: 0402; Package / Case: 0402 (1005 metric); Product: Thick Film Resistors General Purpose; Case Code - mm: 1005; RoHS - Mouser: E; Reeling: True; Product Category: 0402 SMD Chip Resistors; My_Descript: R1%332KS02
footprint R0402 (1005 metric)
pins: 1, 2

## R1%390KS02
designator R?
Thick Film Resistors - SMD 390K OHM 5%; Manufacturer: Yageo; Manufacturer Part Number: RC0402JR-07390KL; Temperature Coefficient: 100 PPM / C; Voltage Rating: 50 V; Power Rating: 62.5 mW (1/16 W); Resistance: 390 kOhms; Product Status: New at Mouser; Value: 390K; Supplier 1: Mouser; Supplier Part Number 1: 603-RC0402JR-07390KL; Product Category: 0402 SMD Chip Resistors; Case Code - in: 0402; Packaging: Reel; Package / Case: 0402 (1005 metric); Product: Thick Film Resistors General Purpose; Termination Style: SMD/SMT; Series: RC; RoHS: RoHS Compliant; Operating Temperature Range: - 55 C to + 155 C; Tolerance: 5 %; Case Code - mm: 1005; Dimensions: 0.5 mm W x 1 mm L x 0.35 mm H; RoHS - Mouser: Y; Minimum Order Quantity: 10000; Reeling: True; Standard Pack Qty: 10000; Category: Thick Film Resistors - SMD; My_Descript: R1%390KS02
footprint R0402 (1005 metric)
pins: 1, 2

## R1%470RS03
designator R?
Thin Film Resistors - SMD 1/10W 47K ohm 1% 50ppm; Manufacturer: Yageo; Manufacturer Part Number: RC0603FR-07470RL; Power Rating: 100 mW; Resistance: 470 Ohms; Temperature Coefficient: 100 PPM / C; Voltage Rating: 50 V; Case Height: 0.45 mm; Case Length: 1.6 mm; Case Width: 0.8 mm; My_Descript: R1%470RS03; Supplier 1: Mouser; RoHS: RoHS Compliant; Category: Thick Film Resistors - SMD; Stock 1: 245000; Pricing 1: 5000=0.003 (AUD); Operating Temperature Range: - 55 C to + 155 C; Package / Case: 0603 (1608 metric); Packaging: Reel; Product: Thick Film Resistors General Purpose; Series: RC; Tolerance: 1 %; Type: General Purpose Chip Resistor Surface Mount; Brand: Yageo; Case Code - in: 0603; Case Code - mm: 1608; Product Category: 0603 SMD Chip Resistors; Standard Pack Qty: 5000; RoHS - Mouser: Y; Minimum Order Quantity: 5000; Reeling: True; ComponentLink1URL: http://www.mouser.com/catalog/specsheets/RC0603.pdf; ComponentLink1Description: http://www.mouser.com/catalog/specsheets/RC0603.pdf; Supplier Part Number 1: 603-RC0603FR-07470RL
footprint R0603 (1608 metric)
pins: 1, 2

## R1%510RS03
designator R?
Thin Film Resistors - SMD 1/10W 510 ohm 1% 50ppm; Manufacturer: Yageo; Manufacturer Part Number: RT0603FRE07510RL; Power Rating: 100 mW; Resistance: 510 Ohms; Temperature Coefficient: 50 PPM / C; Voltage Rating: 75 V; Case Height: 0.45 mm; Case Length: 1.6 mm; Case Width: 0.8 mm; Supplier 1: Mouser; RoHS: RoHS Compliant By Exemption; Category: Thin Film Resistors - SMD; Stock 1: 4613; Pricing 1: 1=0.135, 50=0.077, 100=0.058, 1000=0.046, 5000=0.038, 10000=0.030, 25000=0.024, 100000=0.019 (AUD); Operating Temperature Range: - 55 C to + 125 C; Package / Case: 0603 (1608 metric); Packaging: Reel; Product: Thin Film Resistors SMD; Series: RT; Tolerance: 1 %; Type: High Precision, High Stability; Brand: Yageo; Case Code - in: 0603; Case Code - mm: 1608; RoHS - Mouser: E; Minimum Order Quantity: 1; Reeling: True; ComponentLink1URL: http://www.yageo.com/documents/recent/PYu-RT_1-to-0.05_RoHS_L_4.pdf; ComponentLink1Description: http://www.yageo.com/documents/recent/PYu-RT_1-to-0.05_RoHS_L_4.pdf; Supplier Part Number 1: 603-RT0603FRE07510RL; My_Descript: R1%510RS03
footprint R0603 (1608 metric)
pins: 1, 2

## R1%820RS03
designator R?
Manufacturer: Yageo; Manufacturer Part Number: RT0603FRE07820RL; Power Rating: 100 mW; Resistance: 820 Ohms; Temperature Coefficient: 50 PPM / C; Tolerance: 1 %; Voltage Rating: 75 V; Case Height: 0.45 mm; Case Length: 1.6 mm; Case Width: 0.8 mm; Supplier 1: Mouser; RoHS: RoHS Compliant By Exemption; Category: Thin Film Resistors - SMD; Stock 1: 0; Pricing 1: 1=0.135, 50=0.077, 100=0.058, 1000=0.046, 5000=0.038, 10000=0.030, 25000=0.024, 100000=0.019 (AUD); Operating Temperature Range: - 55 C to + 125 C; Package / Case: 0603 (1608 metric); Packaging: Reel; Product: Thin Film Resistors SMD; Series: RT; Type: High Precision, High Stability; Brand: Yageo; Case Code - in: 0603; Case Code - mm: 1608; RoHS - Mouser: E; Minimum Order Quantity: 1; Reeling: True; ComponentLink1URL: http://www.yageo.com/documents/recent/PYu-RT_1-to-0.05_RoHS_L_4.pdf; ComponentLink1Description: http://www.yageo.com/documents/recent/PYu-RT_1-to-0.05_RoHS_L_4.pdf; Supplier Part Number 1: 603-RT0603FRE07820RL; My_Descript: R1%820RS03
footprint R0603 (1608 metric)
pins: 1, 2

## R5%0R005S05
designator R?
Thick Film Resistors - SMD 0805 0.05ohms 5% Tolerance; Manufacturer: Panasonic; Manufacturer Part Number: ERJ-L06KJ50MV; Power Rating: 125 mW (1/8 W); Temperature Coefficient: 100 PPM / C; Case Height: 0.6 mm; Case Length: 2 mm; Case Width: 1.2 mm; Supplier 1: Mouser; RoHS: RoHS Compliant By Exemption; Category: Thick Film Resistors - SMD; Stock 1: 4618; Pricing 1: 1=0.851, 10=0.346, 100=0.193, 1000=0.144, 5000=0.084, 10000=0.077, 25000=0.076, 50000=0.074 (AUD); Operating Temperature Range: - 55 C to + 125 C; Package / Case: 0805 (2012 metric); Packaging: Reel; Product: Thick Film Resistors SMD; Resistance: 0.05 Ohms; Series: ERJ; Tolerance: 5 %; Type: Thick Film Resistors, Low Resistance Type; Brand: Panasonic; Case Code - in: 0805; Case Code - mm: 2012; Standard Pack Qty: 5000; RoHS - Mouser: E; Minimum Order Quantity: 1; Reeling: True; ComponentLink1URL: http://www.mouser.com/ds/2/315/AOA0000CE3-72189.pdf; ComponentLink1Description: http://www.mouser.com/ds/2/315/AOA0000CE3-72189.pdf; Supplier Part Number 1: 667-ERJ-L06KJ50MV; My_Descript: R5%0R005S05
footprint R0805 (2012metric)
pins: 1, 2

## R5%0R005S12
designator R?
Current Sense Resistors - SMD 2.5W 0.005 OHM 1%; Manufacturer: IRC / TT electronics; Manufacturer Part Number: ULRG252512R005FLFSLT; Resistance: 5 mOhms; Case Height: 0.6 mm; Case Length: 6.3 mm; Case Width: 3.2 mm; Configuration: Single; Forward Continuous Current: 3 A; Max Surge Current: 65 A; Forward Voltage Drop: 0.55 V; Maximum Reverse Leakage Current: 500 uA; Peak Reverse Voltage: 40 V; Supplier 1: Mouser; RoHS: RoHS Compliant; Category: Current Sense Resistors - SMD; Stock 1: 3880; Pricing 1: 1=0.743, 25=0.589, 50=0.528, 100=0.504, 500=0.478, 1000=0.466, 2000=0.454, 4000=0.443 (AUD); Operating Temperature Range: - 55 C to + 170 C; Package / Case: 2512 (6432 metric); Packaging: Reel; Power Rating: 2.5 W; Series: ULR; Termination Style: SMD/SMT; Tolerance: 1 %; Type: Metal Element Current Sense Resistor; Brand: IRC / TT electronics; Case Code - in: 2512; Case Code - mm: 6432; Product Category: Current Sense Chip Resistors; Standard Pack Qty: 4000; RoHS - Mouser: Y; Minimum Order Quantity: 1; Reeling: True; ComponentLink1URL: http://irctt.com/file.aspx?product_id=3&file_type=datasheet; ComponentLink1Description: http://irctt.com/file.aspx?product_id=3&file_type=datasheet; Supplier Part Number 1: 66-ULRG25R005FLFSLT; My_Descript: R5%0R005S12; Supplier 2: Mouser; Stock 2: 0; Pricing 2: 1=0.351, 10=0.324, 50=0.297, 100=0.270, 750=0.203, 1500=0.176, 3000=0.154, 7500=0.151 (AUD); Product: Schottky Rectifiers; Mounting Style: SMD/SMT; ComponentLink2URL: http://www.mouser.com/ds/2/427/b330la-104191.pdf; ComponentLink2Description: http://www.mouser.com/ds/2/427/b330la-104191.pdf; Supplier Part Number 2: 625-B340A-E3/5AT
footprint C2512(6432 metric)
pins: 1, 2

## R5%0RS03
designator R?
Thick Film Resistors - SMD 0 Ohm 5% 1/5W 50V ZERO OHM JUMPER; Manufacturer: Yageo; Manufacturer Part Number: RC0603JR-070RA; Resistance: 0 Ohms; Case Height: 0.45 mm; Case Length: 1.6 mm; Case Width: 0.8 mm; Supplier 1: Mouser; RoHS: RoHS Compliant; Category: Thick Film Resistors - SMD; Stock 1: 0; Pricing 1: 5000=0.001 (AUD); Operating Temperature Range: - 55 C to + 155 C; Package / Case: 0603 (1608 metric); Packaging: Reel; Power Rating: -; Product: Thick Film Resistors Zero-Ohm; Series: RC0603; Temperature Coefficient: -; Tolerance: -; Type: General Purpose Chip Resistor Surface Mount; Voltage Rating: -; Brand: Yageo; Case Code - in: 0603; Case Code - mm: 1608; Product Category: 0603 SMD Chip Resistors; RoHS - Mouser: Y; Minimum Order Quantity: 5000; Reeling: True; ComponentLink1URL: http://www.yageo.com/documents/recent/PYu-RC0603_51_RoHS_L_5.pdf; ComponentLink1Description: http://www.yageo.com/documents/recent/PYu-RC0603_51_RoHS_L_5.pdf; Supplier Part Number 1: 603-RC0603JR-070RA; My_Description: R5%0RS03
footprint R0603 (1608 metric)
pins: 1, 2

## R5%10MS03
designator R?
Thick Film Resistors - SMD 1/10W 10M ohm 5%; Manufacturer: Yageo; Manufacturer Part Number: AC0603JR-0710ML; Power Rating: 100 mW; Resistance: 10 MOhms; Temperature Coefficient: 100 PPM / C; Voltage Rating: 50 V; Case Height: 0.45 mm; Case Length: 1.6 mm; Case Width: 0.8 mm; Supplier 1: Mouser; RoHS: RoHS Compliant By Exemption; Category: Thick Film Resistors - SMD; Stock 1: 0; Pricing 1: 1=0.135, 10=0.024, 100=0.009, 1000=0.007, 5000=0.004, 50000=0.003 (AUD); Operating Temperature Range: - 55 C to + 155 C; Package / Case: 0603 (1608 metric); Packaging: Reel; Product: Thick Film Resistors SMD; Series: AC; Tolerance: 5 %; Type: Chip Resistor Surface Mount; Brand: Yageo; Case Code - in: 0603; Case Code - mm: 1608; RoHS - Mouser: E; Minimum Order Quantity: 1; Reeling: True; ComponentLink1URL: http://www.mouser.com/ds/2/447/PYu-AC_51_RoHS_L_2-10915.pdf; ComponentLink1Description: http://www.mouser.com/ds/2/447/PYu-AC_51_RoHS_L_2-10915.pdf; Supplier Part Number 1: 603-AC0603JR-0710ML; My_Descrpt: R5%10MS03
footprint R0603 (1608 metric)
pins: 1, 2

## RA1%22RS32*16
designator RN?
Resistor Networks & Arrays 22ohm 1% Convex 4resistors; Manufacturer: Bourns; Manufacturer Part Number: CAY16-22R0F4LF; Temperature Coefficient: 200 PPM / C; Circuit Type: Isolated; Number of Resistors: 4; Case Height: 0.5 mm; Case Length: 3.2 mm; Case Width: 1.6 mm; Resistor Values: 22 Ohms; Supplier 1: Mouser; RoHS: RoHS Compliant; Category: Resistor Networks & Arrays; Stock 1: 9390; Pricing 1: 1=0.216, 10=0.185, 100=0.150, 1000=0.134, 2500=0.115, 5000=0.115, 10000=0.095, 25000=0.084, 50000=0.078, 100000=0.072 (AUD); Operating Temperature Range: - 55 C to + 125 C; Packaging: Reel; Series: CAT/CAY 16; Termination Style: SMD/SMT; Tolerance: 1 %; Brand: Bourns; Lead Spacing: 0.8 mm; Product Category: SMD Resistor Arrays; Product Type: Arrays; Standard Pack Qty: 5000; RoHS - Mouser: Y; Minimum Order Quantity: 1; Reeling: True; ComponentLink1URL: http://www.mouser.com/ds/2/54/CATCAY-5693.pdf; ComponentLink1Description: http://www.mouser.com/ds/2/54/CATCAY-5693.pdf; Supplier Part Number 1: 652-CAY16-22R0F4LF; My_Descript: RA1%22RS32*16
footprint RN0603
pins: 1, 2, 3, 4, 5, 6, 7, 8

## RA5%22RS02
designator RP?
RES ARRAY 22 OHM 4 RES 0804; Manufacturer: Yageo; Manufacturer Part Number: YC124-JR-0722RL; Circuit Type: Isolated; Resistance (Ohms): 22; Number of Resistors: 4; Power Per Element: 62.5mW; Tolerance: ±5%; Temperature Coefficient: ±200ppm/°C; Value: 22; Supplier 1: Digi-Key; Supplier Part Number 1: YC124J-22CT-ND; RoHS: RoHS Compliant; Category: Resistors; Stock 1: 156324; Pricing 1: 1=0.1, 10=0.07, 25=0.054, 100=0.0328, 250=0.02816, 500=0.01994, 1000=0.01407, 2500=0.0122, 5000=0.01055 (USD); Packaging: Cut Tape (CT); Number of Pins: 8; Applications: -; Mounting Type: Surface Mount; Package / Case: 0804, Convex, Long Side Terminals; Supplier Device Package: 0402; Size / Dimension: 0.079" L x 0.039" W (2.00mm x 1.00mm); Height: 0.022" (0.55mm); Operating Temperature: -55°C ~ 155°C; ComponentLink1URL: http://www.yageo.com/documents/recent/PYu-YC_TC124_51_RoHS_L_3.pdf; ComponentLink1Description: http://www.yageo.com/documents/recent/PYu-YC_TC124_51_RoHS_L_3.pdf; My_Descript: RA5%22RS02
footprint RN0402-4
pins: 1, 2, 3, 4, 5, 6, 7, 8

## RB520S30T1G
designator D?
Schottky Diodes & Rectifiers 30V 200mW Single; Manufacturer: ON Semiconductor; Forward Continuous Current: 0.2 A; Forward Voltage Drop: 0.6 V; Maximum Reverse Leakage Current: 1 uA; Supplier 1: Mouser; Manufacturer Part Number: RB520S30T1G; RoHS: RoHS Compliant; Category: Schottky Diodes & Rectifiers; Stock 1: 13253; Pricing 1: 1=0.270, 10=0.231, 100=0.081, 1000=0.055, 3000=0.042, 9000=0.036, 24000=0.032, 45000=0.028, 99000=0.024 (AUD); Configuration: Single; Operating Temperature Range: - 55 C to + 150 C; Package / Case: SOD-523; Packaging: Reel; Product: Schottky Diodes; Series: RB520S30; Brand: ON Semiconductor; Mounting Style: SMD/SMT; Peak Reverse Voltage: 30 V; Product Category: Diodes- Schottky; Standard Pack Qty: 3000; RoHS - Mouser: Y; Minimum Order Quantity: 1; Reeling: True; ComponentLink1URL: http://www.mouser.com/ds/2/308/RB520S30T1-D-101117.pdf; ComponentLink1Description: http://www.mouser.com/ds/2/308/RB520S30T1-D-101117.pdf; Supplier Part Number 1: 863-RB520S30T1G; My_Descript: RB520S30T1G
footprint SOD-523
pins: 1, 2

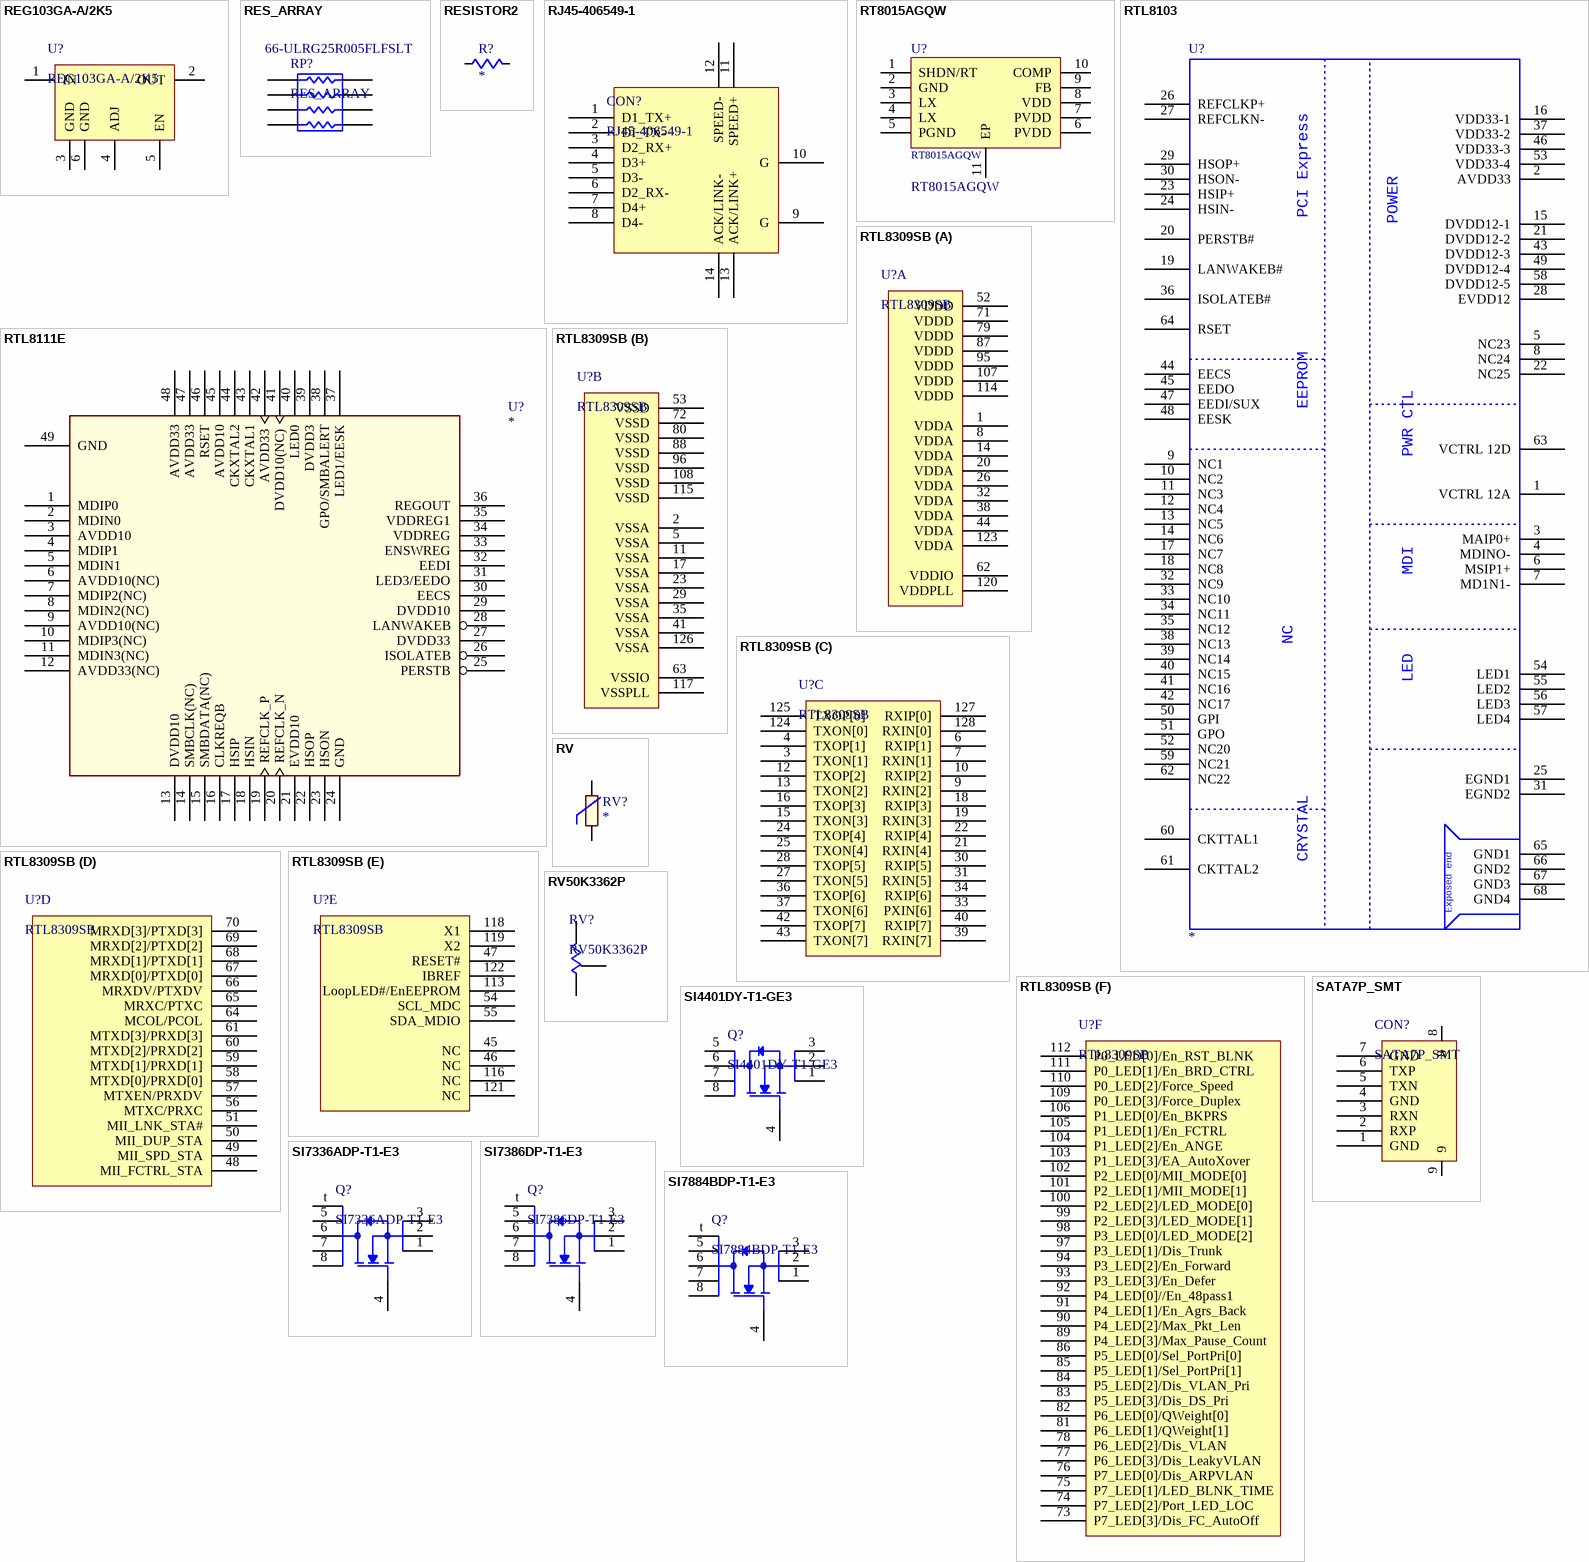
[diagram p10: symbols REG103GA-A/2K5 to SI7884BDP-T1-E3]

## REG103GA-A/2K5
designator U?
LDO Voltage Regulators DMOS 500mA LDO Reg; Manufacturer: Texas Instruments; Input Bias Current - Max: 0.5 mA; Input Voltage MAX: 15 V; Number of Outputs: 1 Output; Output Type: Adjustable; Output Voltage: 1.295 V to 5.5 V; Dropout Voltage - Max: 25 mV at 10 mA; Voltage Regulation Accuracy: 2 %; Input Voltage MIN: + 2.1 V; Reference Voltage: 1.295 V; Product Status: Not Recommended for New Designs; Power Rating: 100 mW; Resistance: 5.1 kOhms; Temperature Coefficient: 100 PPM / C; Tolerance: 1 %; Voltage Rating: 50 V; Case Height: 0.45 mm; Case Length: 1.6 mm; Case Width: 0.8 mm; Supplier 1: Mouser; Manufacturer Part Number: REG103GA-A/2K5; RoHS: RoHS Compliant; Category: LDO Voltage Regulators; Stock 1: 0; Pricing 1: 1790=4.16, 2500=3.87 (AUD); Output Current: 500 mA; Package / Case: SOT-223-6; Packaging: Reel; Series: REG103-A; Brand: Texas Instruments; Mounting Style: SMD/SMT; Maximum Operating Temperature: + 125 C; Minimum Operating Temperature: - 55 C; Product Category: Regulators - Low Dropout (LDO); Standard Pack Qty: 2500; RoHS - Mouser: Y; Minimum Order Quantity: 1790; Reeling: True; ComponentLink1URL: http://www.mouser.com/ds/2/405/sbvs010d-203638.pdf; ComponentLink1Description: http://www.mouser.com/ds/2/405/sbvs010d-203638.pdf; Supplier Part Number 1: 595-REG103GA-A/2K5; My_Descript: REG103GA-A/2K5; Supplier 2: Mouser; Stock 2: 4188; Pricing 2: 1=0.135, 10=0.032, 100=0.024, 1000=0.008, 5000=0.005, 25000=0.004 (AUD); Operating Temperature Range: - 55 C to + 155 C; Product: Thick Film Resistors SMD; Type: Chip Resistor Surface Mount; Case Code - in: 0603; Case Code - mm: 1608; ComponentLink2URL: http://www.mouser.com/ds/2/447/PYu-AC_51_RoHS_L_2-10915.pdf; ComponentLink2Description: http://www.mouser.com/ds/2/447/PYu-AC_51_RoHS_L_2-10915.pdf; Supplier 3: Mouser; Stock 3: 0; Pricing 3: 1=0.135, 10=0.032, 100=0.024, 1000=0.008, 5000=0.005, 25000=0.004 (AUD); Supplier 4: Mouser; Stock 4: 28510; Pricing 4: 1=0.135, 10=0.032, 100=0.024, 1000=0.008, 5000=0.005, 25000=0.004 (AUD); Supplier 5: Mouser; Stock 5: 10364; Pricing 5: 1=0.027, 5000=0.014, 15000=0.011, 100000=0.009 (AUD); ComponentLink3URL: http://www.mouser.com/ds/2/447/PYu-AF_51_RoHS_L_0-13854.pdf; ComponentLink3Description: http://www.mouser.com/ds/2/447/PYu-AF_51_RoHS_L_0-13854.pdf; Supplier 6: Mouser; Stock 6: 32917; Pricing 6: 1=0.135, 10=0.014, 100=0.011, 500=0.008, 1000=0.005, 5000=0.004, 25000=0.003 (AUD); Supplier 7: Mouser; Stock 7: 39490; Pricing 7: 1=0.135, 10=0.032, 100=0.024, 1000=0.008, 5000=0.005, 25000=0.004 (AUD)
footprint SOT223-6
pins: 1 IN, 2 OUT, 3 GND, 4 ADJ, 5 EN, 6 GND